# EAGLE library part AT42QT2120-XU (library AT42QT2120_v21)
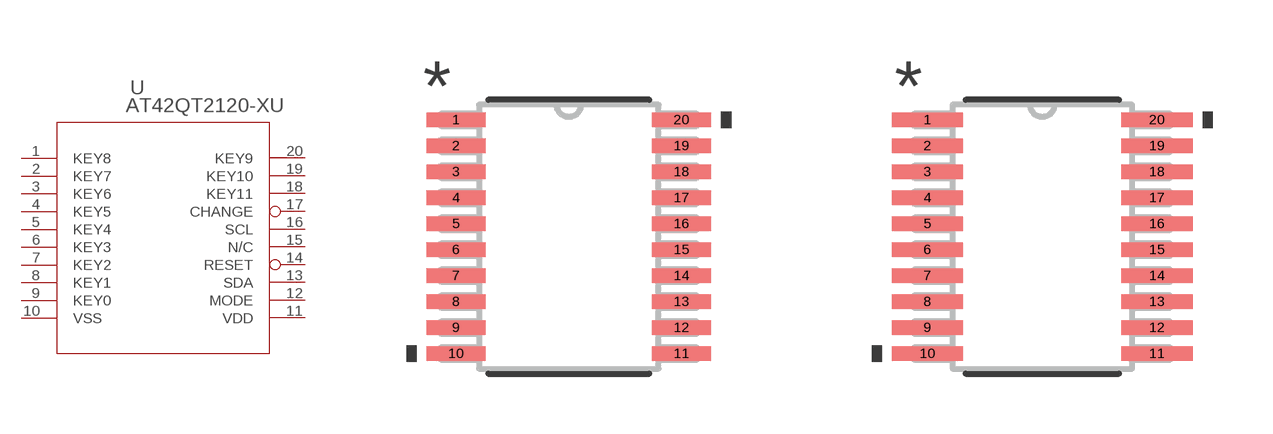
[diagram p1: symbol with the pads of TSSOP20_MC_MCH; footprints TSSOP20_MC_MCH, TSSOP20_MC_MCH-M]

Designator prefix U

## AT42QT2120-XUTSSOP20_MC_MCH (COPYRIGHT: Copyright (C) 2022 Ultra Librarian. All rights reserved.; MANUFACTURER_PART_NUMBER: AT42QT2120-XU; MFR_NAME: Microchip)  [TSSOP20_MC_MCH]
1  KEY8
2  KEY7
3  KEY6
4  KEY5
5  KEY4
6  KEY3
7  KEY2
8  KEY1
9  KEY0
10  VSS  pas
11  VDD  pwr
12  MODE  pas
13  SDA
14  RESET  pas
15  N/C  nc
16  SCL
17  CHANGE  in
18  KEY11
19  KEY10
20  KEY9

## AT42QT2120-XUTSSOP20_MC_MCH-M (COPYRIGHT: Copyright (C) 2022 Ultra Librarian. All rights reserved.; MANUFACTURER_PART_NUMBER: AT42QT2120-XU; MFR_NAME: Microchip)  [TSSOP20_MC_MCH-M]
Pads as for TSSOP20_MC_MCH

## AT42QT2120-XUTSSOP20_MC_MCH-L (COPYRIGHT: Copyright (C) 2022 Ultra Librarian. All rights reserved.; MANUFACTURER_PART_NUMBER: AT42QT2120-XU; MFR_NAME: Microchip)  [TSSOP20_MC_MCH-L]
Pads as for TSSOP20_MC_MCH

## Footprint TSSOP20_MC_MCH (pad centres in mm)
smd 1.473 x 0.356: 1 -2.819,2.925; 2 -2.819,2.275; 3 -2.819,1.625; 4 -2.819,0.975; 5 -2.819,0.325; 6 -2.819,-0.325; 7 -2.819,-0.975; 8 -2.819,-1.625; 9 -2.819,-2.275; 10 -2.819,-2.925; 11 2.819,-2.925; 12 2.819,-2.275; 13 2.819,-1.625; 14 2.819,-0.975; 15 2.819,-0.325; 16 2.819,0.325; 17 2.819,0.975; 18 2.819,1.625; 19 2.819,2.275; 20 2.819,2.925

## Footprint TSSOP20_MC_MCH-M (pad centres in mm)
smd 1.778 x 0.356: 1 -2.87,2.925; 2 -2.87,2.275; 3 -2.87,1.625; 4 -2.87,0.975; 5 -2.87,0.325; 6 -2.87,-0.325; 7 -2.87,-0.975; 8 -2.87,-1.625; 9 -2.87,-2.275; 10 -2.87,-2.925; 11 2.87,-2.925; 12 2.87,-2.275; 13 2.87,-1.625; 14 2.87,-0.975; 15 2.87,-0.325; 16 2.87,0.325; 17 2.87,0.975; 18 2.87,1.625; 19 2.87,2.275; 20 2.87,2.925

## Footprint TSSOP20_MC_MCH-L (pad centres in mm)
smd 1.168 x 0.305: 1 -2.769,2.925; 2 -2.769,2.275; 3 -2.769,1.625; 4 -2.769,0.975; 5 -2.769,0.325; 6 -2.769,-0.325; 7 -2.769,-0.975; 8 -2.769,-1.625; 9 -2.769,-2.275; 10 -2.769,-2.925; 11 2.769,-2.925; 12 2.769,-2.275; 13 2.769,-1.625; 14 2.769,-0.975; 15 2.769,-0.325; 16 2.769,0.325; 17 2.769,0.975; 18 2.769,1.625; 19 2.769,2.275; 20 2.769,2.925